# EAGLE library part ICS83021I (library RFWBBoard)
ICS83021I 1-to-1 differential-to-LVCMOS/LVTTL translator Integrated Device Technology The ICS83021I is a 1-to-1 Differential-to-LVCMOS/LVTTL Translator and a member of the HiPerClockS™ family of High Performance Clock Solutions from IDT. The differential input is highly flexible and can accept the following input types: LVPECL, LVDS, LVHSTL, SSTL, and HCSL. The small 8-lead SOIC footprint makes this device ideal for use in applications with limited board space. One LVCMOS/LVTTL output Differential CLK/nCLK input pair CLK/nCLK pair can accept the following differential input levels: LVPECL, LVDS, LVHSTL, SSTL, HCSL Output frequency: 350MHz (typical) Part-to-part skew: 500ps (maximum) Additive phase jitter, RMS: 0.21ps (typical), 3.3V output Full 3.3V and 2.5V operating supply -40°C to 85°C ambient operating temperature Available in both standard (RoHS 5) and lead-free (RoHS 6) packages Source: http://www.idt.com/sites/default/files/documents/IDT_83021I_DST_20100103.pdf
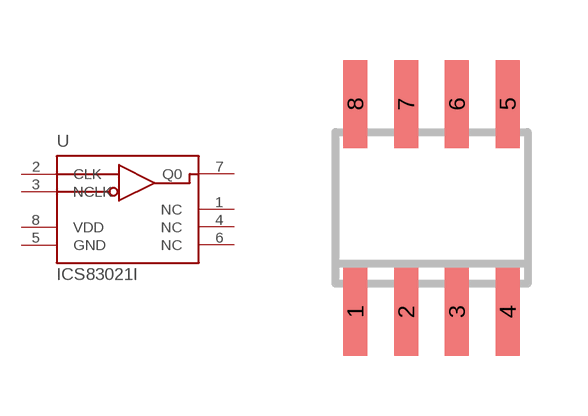
[diagram p10: symbol with the pads of SOIC8; footprint SOIC8]

Designator prefix U

## ICS83021I  [SOIC8]
1  NC  nc
2  CLK  in
3  NCLK  in
4  NC  nc
5  GND  sup
6  NC  nc
7  Q0  out
8  VDD  sup

## Footprint SOIC8 (pad centres in mm)
smd 0.6 x 2.2: 1 -1.905,-2.6; 2 -0.635,-2.6; 3 0.635,-2.6; 4 1.905,-2.6; 5 1.905,2.6; 6 0.635,2.6; 7 -0.635,2.6; 8 -1.905,2.6